# EAGLE library part GSM_SIM908 (library microbuilder)
SIM908 GSM + GPS Module
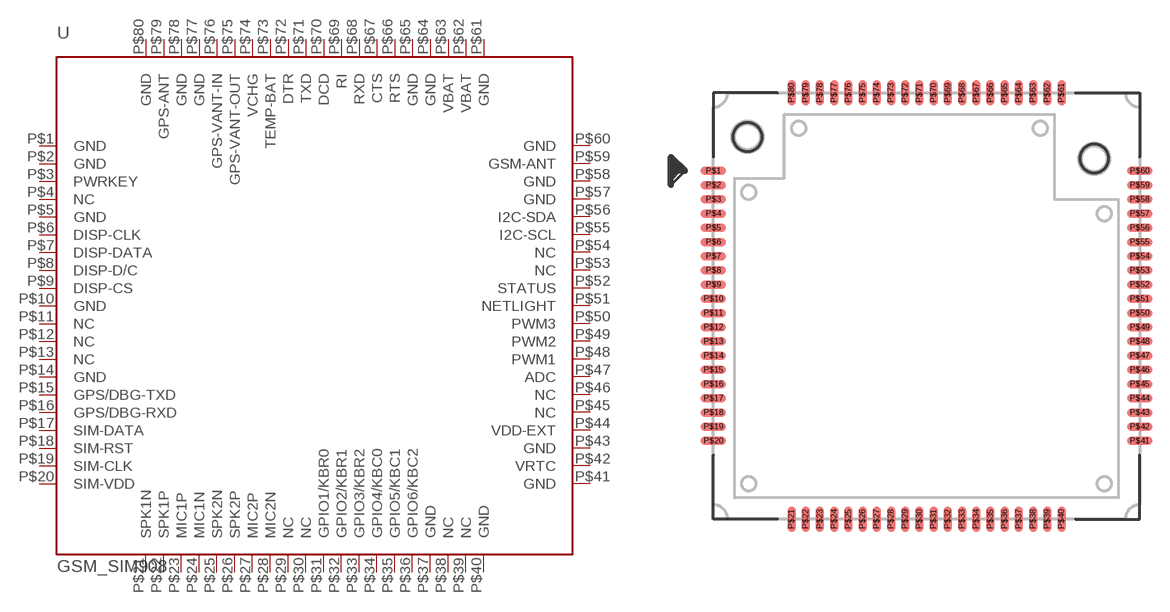
[diagram p155: symbol with the pads of SIM908; footprint SIM908]

Designator prefix U

## GSM_SIM908  [SIM908]
P$1  GND  pwr
P$2  GND  pwr
P$3  PWRKEY  in
P$4  NC  nc
P$5  GND  pwr
P$6  DISP-CLK  out
P$7  DISP-DATA
P$8  DISP-D/C  out
P$9  DISP-CS  out
P$10  GND  pwr
P$11  NC  nc
P$12  NC  nc
P$13  NC  nc
P$14  GND  pwr
P$15  GPS/DBG-TXD  out
P$16  GPS/DBG-RXD  in
P$17  SIM-DATA
P$18  SIM-RST  out
P$19  SIM-CLK  out
P$20  SIM-VDD  pwr
P$21  SPK1N  out
P$22  SPK1P  out
P$23  MIC1P  in
P$24  MIC1N  in
P$25  SPK2N  out
P$26  SPK2P  out
P$27  MIC2P  in
P$28  MIC2N  in
P$29  NC  nc
P$30  NC  nc
P$31  GPIO1/KBR0
P$32  GPIO2/KBR1
P$33  GPIO3/KBR2
P$34  GPIO4/KBC0
P$35  GPIO5/KBC1
P$36  GPIO6/KBC2
P$37  GND  pwr
P$38  NC  nc
P$39  NC  nc
P$40  GND  pwr
P$41  GND  pwr
P$42  VRTC  pwr
P$43  GND  pwr
P$44  VDD-EXT  pwr
P$45  NC  nc
P$46  NC  nc
P$47  ADC  in
P$48  PWM1  out
P$49  PWM2  out
P$50  PWM3  out
P$51  NETLIGHT  out
P$52  STATUS  out
P$53  NC  nc
P$54  NC  nc
P$55  I2C-SCL
P$56  I2C-SDA  out
P$57  GND  pwr
P$58  GND  pwr
P$59  GSM-ANT
P$60  GND  pwr
P$61  GND  pwr
P$62  VBAT  pwr
P$63  VBAT  pwr
P$64  GND  pwr
P$65  GND  pwr
P$66  RTS  out
P$67  CTS  in
P$68  RXD  in
P$69  RI  out
P$70  DCD  out
P$71  TXD  out
P$72  DTR  in
P$73  TEMP-BAT  in
P$74  VCHG  pwr
P$75  GPS-VANT-OUT  pwr
P$76  GPS-VANT-IN  pwr
P$77  GND  pwr
P$78  GND  pwr
P$79  GPS-ANT  in
P$80  GND  pwr

## Footprint SIM908 (pad centres in mm)
smd 1.8 x 0.6: P$1 -15,9.5; P$2 -15,8.5; P$3 -15,7.5; P$4 -15,6.5; P$5 -15,5.5; P$6 -15,4.5; P$7 -15,3.5; P$8 -15,2.5; P$9 -15,1.5; P$10 -15,0.5; P$11 -15,-0.5; P$12 -15,-1.5; P$13 -15,-2.5; P$14 -15,-3.5; P$15 -15,-4.5; P$16 -15,-5.5; P$17 -15,-6.5; P$18 -15,-7.5; P$19 -15,-8.5; P$20 -15,-9.5; P$41 15,-9.5; P$42 15,-8.5; P$43 15,-7.5; P$44 15,-6.5; P$45 15,-5.5; P$46 15,-4.5; P$47 15,-3.5; P$48 15,-2.5; P$49 15,-1.5; P$50 15,-0.5; P$51 15,0.5; P$52 15,1.5; P$53 15,2.5; P$54 15,3.5; P$55 15,4.5; P$56 15,5.5; P$57 15,6.5; P$58 15,7.5; P$59 15,8.5; P$60 15,9.5
smd 0.6 x 1.8: P$21 -9.5,-15; P$22 -8.5,-15; P$23 -7.5,-15; P$24 -6.5,-15; P$25 -5.5,-15; P$26 -4.5,-15; P$27 -3.5,-15; P$28 -2.5,-15; P$29 -1.5,-15; P$30 -0.5,-15; P$31 0.5,-15; P$32 1.5,-15; P$33 2.5,-15; P$34 3.5,-15; P$35 4.5,-15; P$36 5.5,-15; P$37 6.5,-15; P$38 7.5,-15; P$39 8.5,-15; P$40 9.5,-15; P$61 9.5,15; P$62 8.5,15; P$63 7.5,15; P$64 6.5,15; P$65 5.5,15; P$66 4.5,15; P$67 3.5,15; P$68 2.5,15; P$69 1.5,15; P$70 0.5,15; P$71 -0.5,15; P$72 -1.5,15; P$73 -2.5,15; P$74 -3.5,15; P$75 -4.5,15; P$76 -5.5,15; P$77 -6.5,15; P$78 -7.5,15; P$79 -8.5,15; P$80 -9.5,15